# EAGLE library part 54202-T0803AB01LF (library 54202-T0803AB01LF)
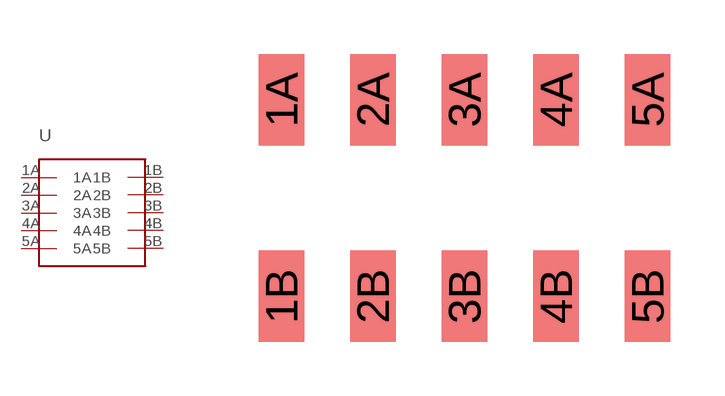
[diagram p0: symbol with the pads of 54202-T0803AB01LF; footprint 54202-T0803AB01LF]

Designator prefix -

## 54202-T0803AB01LF  [54202-T0803AB01LF]
1A  1A
1B  1B
2A  2A
2B  2B
3A  3A
3B  3B
4A  4A
4B  4B
5A  5A
5B  5B

## Footprint 54202-T0803AB01LF (pad centres in mm)
smd 1.27 x 2.54: 1A -5.08,2.731; 1B -5.08,-2.731; 2A -2.54,2.731; 2B -2.54,-2.731; 3A 0,2.731; 3B 0,-2.731; 4A 2.54,2.731; 4B 2.54,-2.731; 5A 5.08,2.731; 5B 5.08,-2.731